# Altium footprint library rf-solutions.PCBLIB: 4 footprints
Each footprint in its own frame and in the unit in brackets; x right, y up, seen from the top. Pads: shape width x height; smd on the part's side, far side on the other; paste and mask are expansions set on the pad; w line width, h text height; cw(c..) or ccw(c..) is an arc to the next point about the centre after c.
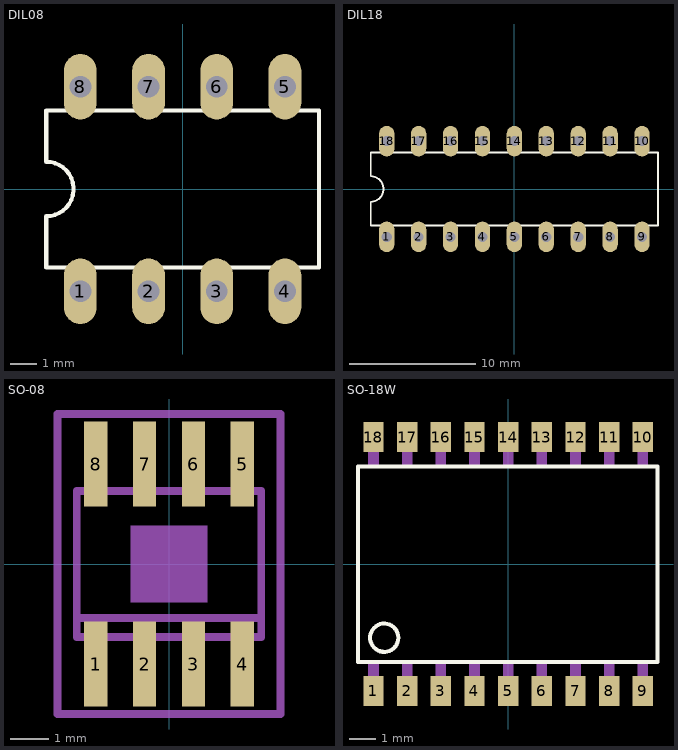
[diagram p0: the footprints below, top view; thin cyan lines are the x and y axes]

## DIL08 [mil]
pads (8):
  oval 48x96 hole 32: 1(-150,-150) 2(-50,-150) 3(50,-150) 4(150,-150) 5(150,150) 6(50,150) 7(-50,150) 8(-150,150)
Top Overlay:
  lines w6: -200,-115 200,-115 200,115 -200,115 -200,40 cw(c-200,0) -200,-40 -200,-115

## DIL18 [mil]
pads (18):
  oval 48x96 hole 32: 1(-400,-150) 2(-300,-150) 3(-200,-150) 4(-100,-150) 5(0,-150) 6(100,-150) 7(200,-150) 8(300,-150) 9(400,-150) 10(400,150) 11(300,150) 12(200,150) 13(100,150) 14(0,150) 15(-100,150) 16(-200,150) 17(-300,150) 18(-400,150)
Top Overlay:
  lines w6: -450,-115 450,-115 450,115 -450,115 -450,40 cw(c-450,0) -450,-40 -450,-115

## SO-08 [mil]
pads (8):
  rect 23.62x86.61 smd: 1(-75,-102.36) 2(-25,-102.36) 3(25,-102.36) 4(75,-102.36) 5(75,102.36) 6(25,102.36) 7(-25,102.36) 8(-75,102.36)
Mechanical 6:
  rectangle: -39.37,-39.37 39.37,39.37
Mechanical 13:
  text "IPC SO8" at -75,-25 h24.8
  text "JEDEC MS-012 AA" at -75,14.37 h18.6
Mechanical 16:
  rectangle: -84.65,-122.05 -65.35,-78.74
  rectangle: -34.65,-122.05 -15.35,-78.74
  rectangle: 15.35,-122.05 34.65,-78.74
  rectangle: 65.35,-122.05 84.65,-78.74
  rectangle: 65.35,78.74 84.65,122.05
  rectangle: 15.35,78.74 34.65,122.05
  rectangle: -34.65,78.74 -15.35,122.05
  rectangle: -84.65,78.74 -65.35,122.05
  lines w8: -94.49,-55.12 -94.49,-74.8 94.49,-74.8 94.49,-55.12 ; -94.49,-55.12 -94.49,74.8 94.49,74.8 94.49,-55.12 ; -94.49,-55.12 94.49,-55.12
Mechanical 27:
  lines w7.87: -114.17,-153.54 114.17,-153.54 114.17,153.54 -114.17,153.54 -114.17,-153.54

## SO-18W [mil]
pads (18):
  rect 30x45 smd: 1(-200,-188.5) 2(-150,-188.5) 3(-100,-188.5) 4(-50,-188.5) 5(0,-188.5) 6(50,-188.5) 7(100,-188.5) 8(150,-188.5) 9(200,-188.5) 10(200,188.5) 11(150,188.5) 12(100,188.5) 13(50,188.5) 14(0,188.5) 15(-50,188.5) 16(-100,188.5) 17(-150,188.5) 18(-200,188.5)
Top Overlay:
  circle w6: c-184,-109.5 r21
  lines w6: -223,-145.5 222,-145.5 222,144.5 -223,144.5 -223,-145.5
Mechanical 16:
  rectangle: 192,146.5 208,199.5
  rectangle: 142,146.5 158,199.5
  rectangle: 92,146.5 108,199.5
  rectangle: 42,146.5 58,199.5
  rectangle: -8,146.5 8,199.5
  rectangle: -58,146.5 -42,199.5
  rectangle: -108,146.5 -92,199.5
  rectangle: -158,146.5 -142,199.5
  rectangle: -208,146.5 -192,199.5
  rectangle: -208,-200.5 -192,-147.5
  rectangle: -158,-200.5 -142,-147.5
  rectangle: -108,-200.5 -92,-147.5
  rectangle: -58,-200.5 -42,-147.5
  rectangle: -8,-200.5 8,-147.5
  rectangle: 42,-200.5 58,-147.5
  rectangle: 92,-200.5 108,-147.5
  rectangle: 142,-200.5 158,-147.5
  rectangle: 192,-200.5 208,-147.5